# Altium integrated library Maxim Logic Multiplexer.IntLib: 168 symbols (part 1 of 4)
Pins are listed as number, name and electrical type; pins without a type are passive.

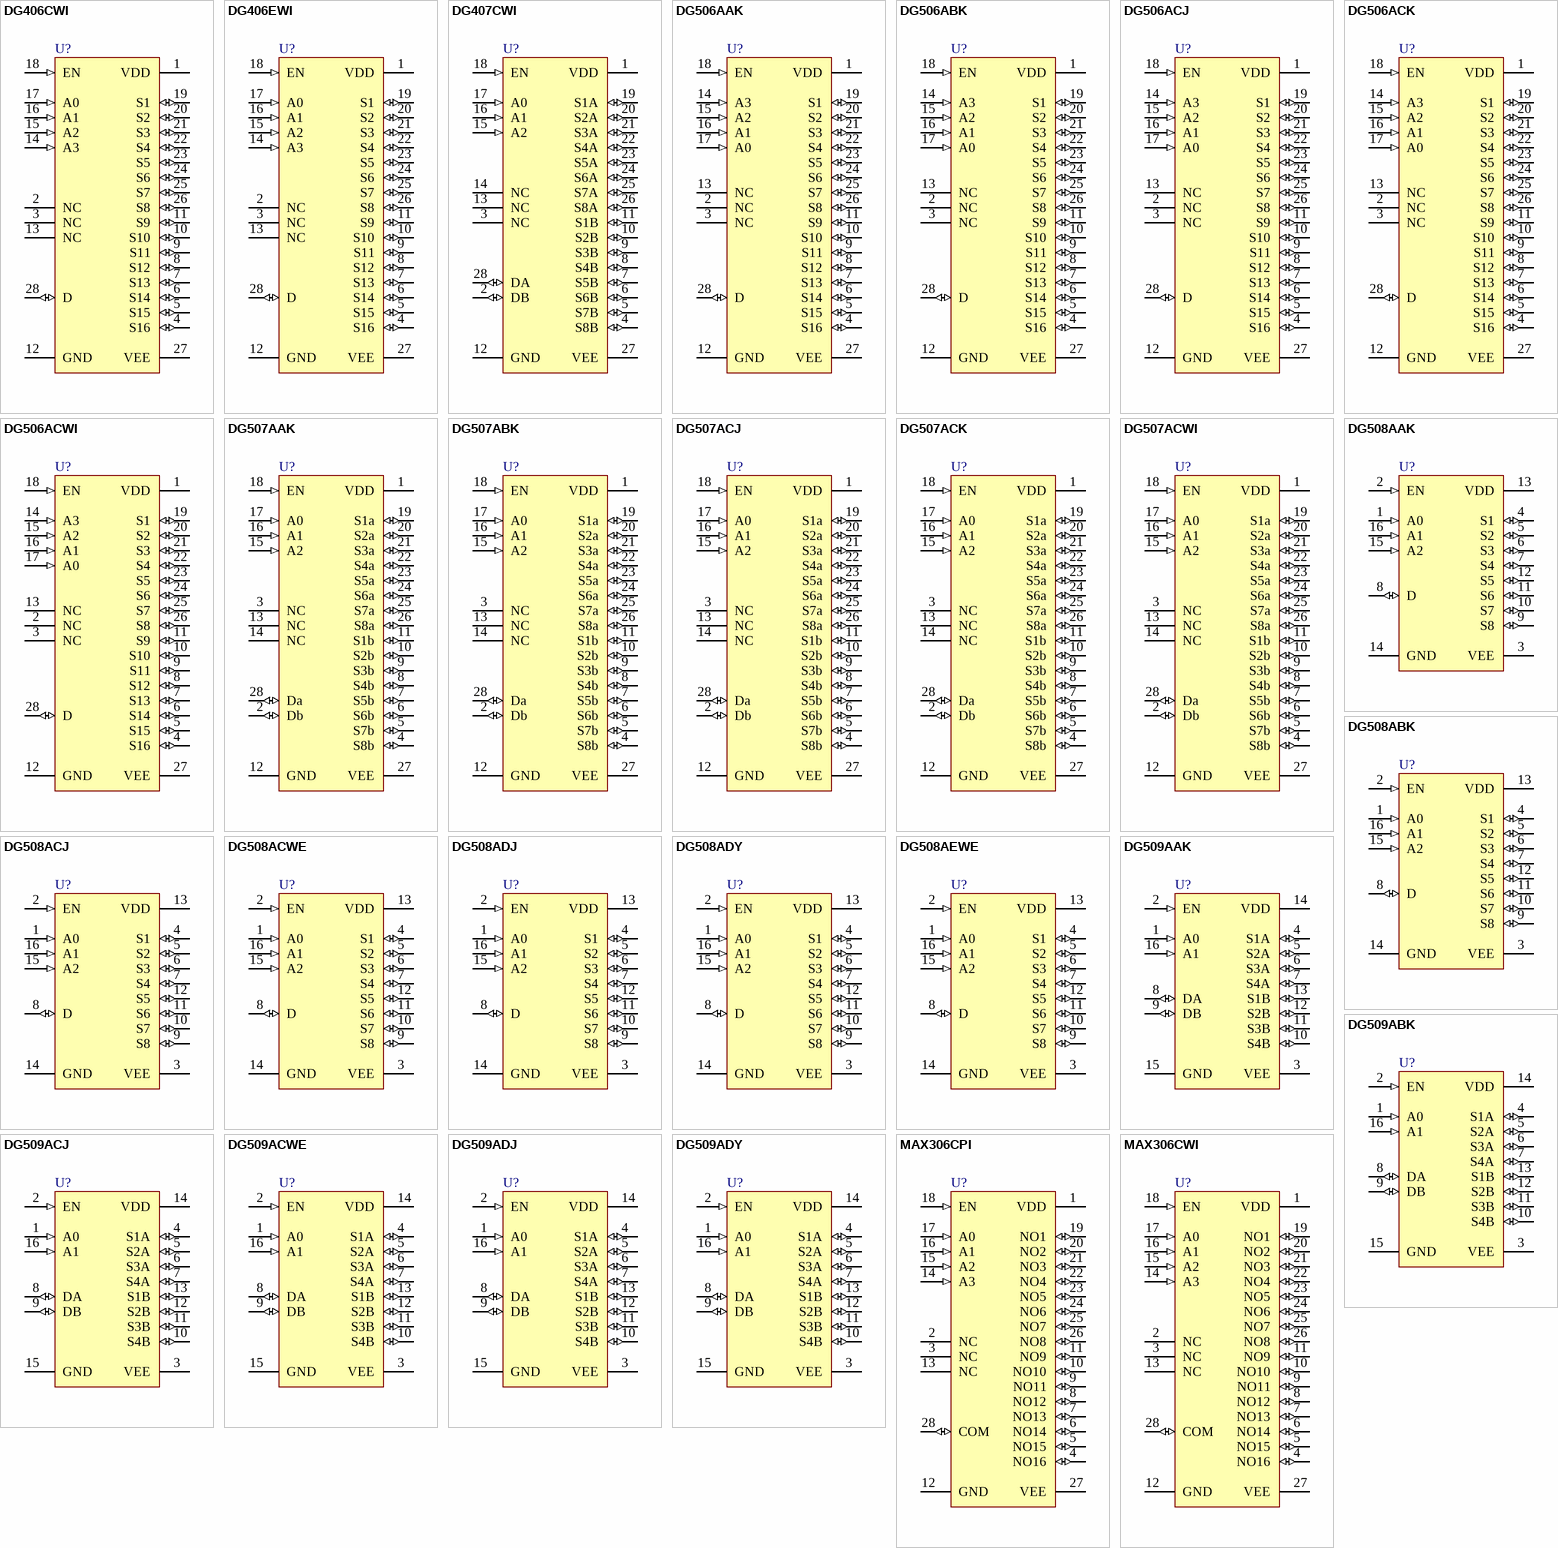
[diagram p0: symbols DG406CWI to MAX306CWI]

## DG406CWI
designator U?
Improved, 16-channel CMOS Analog Multiplexer; Published: 16-Jan-2001; LatestRevisionDate: 13-Apr-2006; LatestRevisionNote: IPC-7351 Footprint Added.; DatasheetVersion: Aug-1995; PackageReference: WSO28; Publisher: Altium Limited; PackageDescription: 28-Pin Small Outline Integrated Circuit 1.27 mm Pitch; ComponentLink1Description: Manufacturer Link; ComponentLink1URL: http://www.maxim-ic.com/; ComponentLink2Description: Datasheet; ComponentLink2URL: http://pdfserv.maxim-ic.com/en/ds/DG406-DG407.pdf
footprint WSO28_N (SOIC, 28-Leads, Body 17.9x7.5mm, Pitch 1.27mm, IPC Medium Density)
footprint WSO28_L (SOIC, 28-Leads, Body 17.9x7.5mm, Pitch 1.27mm, IPC High Density)
footprint WSO28_M (SOIC, 28-Leads, Body 17.9x7.5mm, Pitch 1.27mm, IPC Low Density)
3D model WSO28 (28-Pin Small Outline Integrated Circuit 1.27 mm Pitch)
pins: 1 VDD (power), 2 NC, 3 NC, 4 S16 (io), 5 S15 (io), 6 S14 (io), 7 S13 (io), 8 S12 (io), 9 S11 (io), 10 S10 (io), 11 S9 (io), 12 GND (power), 13 NC, 14 A3 (in), 15 A2 (in), 16 A1 (in), 17 A0 (in), 18 EN (in), 19 S1 (io), 20 S2 (io), 21 S3 (io), 22 S4 (io), 23 S5 (io), 24 S6 (io), 25 S7 (io), 26 S8 (io), 27 VEE (power), 28 D (io)

## DG406EWI
designator U?
16-Channel with High-Performance CMOS Analog Multiplexer; Published: 16-Jan-2001; LatestRevisionDate: 13-Apr-2006; LatestRevisionNote: IPC-7351 Footprint Added.; DatasheetVersion: May-1993; PackageReference: WSO28; Publisher: Altium Limited; PackageDescription: 28-Pin Small Outline Integrated Circuit 1.27 mm Pitch; ComponentLink1Description: Manufacturer Link; ComponentLink1URL: http://www.maxim-ic.com/; ComponentLink2Description: Datasheet; ComponentLink2URL: http://pdfserv.maxim-ic.com/en/ds/DG406-DG407.pdf
footprint WSO28_N (SOIC, 28-Leads, Body 17.9x7.5mm, Pitch 1.27mm, IPC Medium Density)
footprint WSO28_L (SOIC, 28-Leads, Body 17.9x7.5mm, Pitch 1.27mm, IPC High Density)
footprint WSO28_M (SOIC, 28-Leads, Body 17.9x7.5mm, Pitch 1.27mm, IPC Low Density)
3D model WSO28 (28-Pin Small Outline Integrated Circuit 1.27 mm Pitch)
pins: 1 VDD (power), 2 NC, 3 NC, 4 S16 (io), 5 S15 (io), 6 S14 (io), 7 S13 (io), 8 S12 (io), 9 S11 (io), 10 S10 (io), 11 S9 (io), 12 GND (power), 13 NC, 14 A3 (in), 15 A2 (in), 16 A1 (in), 17 A0 (in), 18 EN (in), 19 S1 (io), 20 S2 (io), 21 S3 (io), 22 S4 (io), 23 S5 (io), 24 S6 (io), 25 S7 (io), 26 S8 (io), 27 VEE (power), 28 D (io)

## DG407CWI
designator U?
Improved, Dual 8-channel CMOS Analog Multiplexer; Published: 16-Jan-2001; LatestRevisionDate: 13-Apr-2006; LatestRevisionNote: IPC-7351 Footprint Added.; DatasheetVersion: Aug-1995; PackageReference: WSO28; Publisher: Altium Limited; PackageDescription: 28-Pin Small Outline Integrated Circuit 1.27 mm Pitch; ComponentLink1Description: Manufacturer Link; ComponentLink1URL: http://www.maxim-ic.com/; ComponentLink2Description: Datasheet; ComponentLink2URL: http://pdfserv.maxim-ic.com/en/ds/DG406-DG407.pdf
footprint WSO28_N (SOIC, 28-Leads, Body 17.9x7.5mm, Pitch 1.27mm, IPC Medium Density)
footprint WSO28_L (SOIC, 28-Leads, Body 17.9x7.5mm, Pitch 1.27mm, IPC High Density)
footprint WSO28_M (SOIC, 28-Leads, Body 17.9x7.5mm, Pitch 1.27mm, IPC Low Density)
3D model WSO28 (28-Pin Small Outline Integrated Circuit 1.27 mm Pitch)
pins: 1 VDD (power), 2 DB (io), 3 NC, 4 S8B (io), 5 S7B (io), 6 S6B (io), 7 S5B (io), 8 S4B (io), 9 S3B (io), 10 S2B (io), 11 S1B (io), 12 GND (power), 13 NC, 14 NC, 15 A2 (in), 16 A1 (in), 17 A0 (in), 18 EN (in), 19 S1A (io), 20 S2A (io), 21 S3A (io), 22 S4A (io), 23 S5A (io), 24 S6A (io), 25 S7A (io), 26 S8A (io), 27 VEE (power), 28 DA (io)

## DG506AAK
designator U?
Monolithic CMOS Analog Multiplexer; Published: 16-Jan-2001; LatestRevisionDate: 29-May-2009; LatestRevisionNote: Component Body Added.; DatasheetVersion: Oct-1988; PackageReference: JI28A; Publisher: Altium Limited; PackageDescription: DIP, 28-Pin, Row Spacing 15.24 mm, Pitch 2.54 mm; ComponentLink1Description: Manufacturer Link; ComponentLink1URL: http://www.maxim-ic.com/
footprint JI28A (DIP, 28-Leads, Row Spacing 15.24mm, Pitch 2.54mm, Body 37.15x14.1mm)
3D model JI28 (DIP, 28-Pin, Row Spacing 15.24 mm, Pitch 2.54 mm)
pins: 1 VDD (power), 2 NC, 3 NC, 4 S16 (io), 5 S15 (io), 6 S14 (io), 7 S13 (io), 8 S12 (io), 9 S11 (io), 10 S10 (io), 11 S9 (io), 12 GND (power), 13 NC, 14 A3 (in), 15 A2 (in), 16 A1 (in), 17 A0 (in), 18 EN (in), 19 S1 (io), 20 S2 (io), 21 S3 (io), 22 S4 (io), 23 S5 (io), 24 S6 (io), 25 S7 (io), 26 S8 (io), 27 VEE (power), 28 D (io)

## DG506ABK
designator U?
Monolithic CMOS Analog Multiplexer; Published: 16-Jan-2001; LatestRevisionDate: 29-May-2009; LatestRevisionNote: Component Body Added.; DatasheetVersion: Oct-1988; PackageReference: JI28A; Publisher: Altium Limited; PackageDescription: DIP, 28-Pin, Row Spacing 15.24 mm, Pitch 2.54 mm; ComponentLink1Description: Manufacturer Link; ComponentLink1URL: http://www.maxim-ic.com/
footprint JI28A (DIP, 28-Leads, Row Spacing 15.24mm, Pitch 2.54mm, Body 37.15x14.1mm)
3D model JI28 (DIP, 28-Pin, Row Spacing 15.24 mm, Pitch 2.54 mm)
pins: 1 VDD (power), 2 NC, 3 NC, 4 S16 (io), 5 S15 (io), 6 S14 (io), 7 S13 (io), 8 S12 (io), 9 S11 (io), 10 S10 (io), 11 S9 (io), 12 GND (power), 13 NC, 14 A3 (in), 15 A2 (in), 16 A1 (in), 17 A0 (in), 18 EN (in), 19 S1 (io), 20 S2 (io), 21 S3 (io), 22 S4 (io), 23 S5 (io), 24 S6 (io), 25 S7 (io), 26 S8 (io), 27 VEE (power), 28 D (io)

## DG506ACJ
designator U?
Monolithic CMOS Analog Multiplexer; Published: 16-Jan-2001; LatestRevisionDate: 29-May-2009; LatestRevisionNote: Component Body Added.; DatasheetVersion: Oct-1988; PackageVersion: 1997; PackageReference: NI28A; Publisher: Altium Limited; PackageDescription: DIP, 28-Pin, Row Spacing 7.62 mm, Pitch 2.54 mm; ComponentLink1Description: Manufacturer Link; ComponentLink1URL: http://www.maxim-ic.com/
footprint NI28A (DIP, 28-Leads, Row Spacing 7.62mm, Pitch 2.54mm, Body 34.8x6.99mm)
3D model NI28 (DIP, 28-Pin, Row Spacing 7.62 mm, Pitch 2.54 mm)
pins: 1 VDD (power), 2 NC, 3 NC, 4 S16 (io), 5 S15 (io), 6 S14 (io), 7 S13 (io), 8 S12 (io), 9 S11 (io), 10 S10 (io), 11 S9 (io), 12 GND (power), 13 NC, 14 A3 (in), 15 A2 (in), 16 A1 (in), 17 A0 (in), 18 EN (in), 19 S1 (io), 20 S2 (io), 21 S3 (io), 22 S4 (io), 23 S5 (io), 24 S6 (io), 25 S7 (io), 26 S8 (io), 27 VEE (power), 28 D (io)

## DG506ACK
designator U?
Monolithic CMOS Analog Multiplexer; Published: 16-Jan-2001; LatestRevisionDate: 29-May-2009; LatestRevisionNote: Component Body Added.; DatasheetVersion: Oct-1988; PackageReference: JI28A; Publisher: Altium Limited; PackageDescription: DIP, 28-Pin, Row Spacing 15.24 mm, Pitch 2.54 mm; ComponentLink1Description: Manufacturer Link; ComponentLink1URL: http://www.maxim-ic.com/
footprint JI28A (DIP, 28-Leads, Row Spacing 15.24mm, Pitch 2.54mm, Body 37.15x14.1mm)
3D model JI28 (DIP, 28-Pin, Row Spacing 15.24 mm, Pitch 2.54 mm)
pins: 1 VDD (power), 2 NC, 3 NC, 4 S16 (io), 5 S15 (io), 6 S14 (io), 7 S13 (io), 8 S12 (io), 9 S11 (io), 10 S10 (io), 11 S9 (io), 12 GND (power), 13 NC, 14 A3 (in), 15 A2 (in), 16 A1 (in), 17 A0 (in), 18 EN (in), 19 S1 (io), 20 S2 (io), 21 S3 (io), 22 S4 (io), 23 S5 (io), 24 S6 (io), 25 S7 (io), 26 S8 (io), 27 VEE (power), 28 D (io)

## DG506ACWI
designator U?
Monolithic CMOS Analog Multiplexer; Published: 16-Jan-2001; LatestRevisionDate: 13-Apr-2006; LatestRevisionNote: IPC-7351 Footprint Added.; DatasheetVersion: Oct-1988; PackageReference: WSO28; Publisher: Altium Limited; PackageDescription: 28-Pin Small Outline Integrated Circuit 1.27 mm Pitch; ComponentLink1Description: Manufacturer Link; ComponentLink1URL: http://www.maxim-ic.com/
footprint WSO28_N (SOIC, 28-Leads, Body 17.9x7.5mm, Pitch 1.27mm, IPC Medium Density)
footprint WSO28_L (SOIC, 28-Leads, Body 17.9x7.5mm, Pitch 1.27mm, IPC High Density)
footprint WSO28_M (SOIC, 28-Leads, Body 17.9x7.5mm, Pitch 1.27mm, IPC Low Density)
3D model WSO28 (28-Pin Small Outline Integrated Circuit 1.27 mm Pitch)
pins: 1 VDD (power), 2 NC, 3 NC, 4 S16 (io), 5 S15 (io), 6 S14 (io), 7 S13 (io), 8 S12 (io), 9 S11 (io), 10 S10 (io), 11 S9 (io), 12 GND (power), 13 NC, 14 A3 (in), 15 A2 (in), 16 A1 (in), 17 A0 (in), 18 EN (in), 19 S1 (io), 20 S2 (io), 21 S3 (io), 22 S4 (io), 23 S5 (io), 24 S6 (io), 25 S7 (io), 26 S8 (io), 27 VEE (power), 28 D (io)

## DG507AAK
designator U?
Monolithic CMOS Analog Multiplexer; Published: 16-Jan-2001; LatestRevisionDate: 29-May-2009; LatestRevisionNote: Component Body Added.; DatasheetVersion: Oct-1988; PackageReference: JI28A; Publisher: Altium Limited; PackageDescription: DIP, 28-Pin, Row Spacing 15.24 mm, Pitch 2.54 mm; ComponentLink1Description: Manufacturer Link; ComponentLink1URL: http://www.maxim-ic.com/
footprint JI28A (DIP, 28-Leads, Row Spacing 15.24mm, Pitch 2.54mm, Body 37.15x14.1mm)
3D model JI28 (DIP, 28-Pin, Row Spacing 15.24 mm, Pitch 2.54 mm)
pins: 1 VDD (power), 2 Db (io), 3 NC, 4 S8b (io), 5 S7b (io), 6 S6b (io), 7 S5b (io), 8 S4b (io), 9 S3b (io), 10 S2b (io), 11 S1b (io), 12 GND (power), 13 NC, 14 NC, 15 A2 (in), 16 A1 (in), 17 A0 (in), 18 EN (in), 19 S1a (io), 20 S2a (io), 21 S3a (io), 22 S4a (io), 23 S5a (io), 24 S6a (io), 25 S7a (io), 26 S8a (io), 27 VEE (power), 28 Da (io)

## DG507ABK
designator U?
Monolithic CMOS Analog Multiplexer; Published: 16-Jan-2001; LatestRevisionDate: 29-May-2009; LatestRevisionNote: Component Body Added.; DatasheetVersion: Oct-1988; PackageReference: JI28A; Publisher: Altium Limited; PackageDescription: DIP, 28-Pin, Row Spacing 15.24 mm, Pitch 2.54 mm; ComponentLink1Description: Manufacturer Link; ComponentLink1URL: http://www.maxim-ic.com/
footprint JI28A (DIP, 28-Leads, Row Spacing 15.24mm, Pitch 2.54mm, Body 37.15x14.1mm)
3D model JI28 (DIP, 28-Pin, Row Spacing 15.24 mm, Pitch 2.54 mm)
pins: 1 VDD (power), 2 Db (io), 3 NC, 4 S8b (io), 5 S7b (io), 6 S6b (io), 7 S5b (io), 8 S4b (io), 9 S3b (io), 10 S2b (io), 11 S1b (io), 12 GND (power), 13 NC, 14 NC, 15 A2 (in), 16 A1 (in), 17 A0 (in), 18 EN (in), 19 S1a (io), 20 S2a (io), 21 S3a (io), 22 S4a (io), 23 S5a (io), 24 S6a (io), 25 S7a (io), 26 S8a (io), 27 VEE (power), 28 Da (io)

## DG507ACJ
designator U?
Monolithic CMOS Analog Multiplexer; Published: 16-Jan-2001; LatestRevisionDate: 29-May-2009; LatestRevisionNote: Component Body Added.; DatasheetVersion: Oct-1988; PackageVersion: 1997; PackageReference: NI28A; Publisher: Altium Limited; PackageDescription: DIP, 28-Pin, Row Spacing 7.62 mm, Pitch 2.54 mm; ComponentLink1Description: Manufacturer Link; ComponentLink1URL: http://www.maxim-ic.com/
footprint NI28A (DIP, 28-Leads, Row Spacing 7.62mm, Pitch 2.54mm, Body 34.8x6.99mm)
3D model NI28 (DIP, 28-Pin, Row Spacing 7.62 mm, Pitch 2.54 mm)
pins: 1 VDD (power), 2 Db (io), 3 NC, 4 S8b (io), 5 S7b (io), 6 S6b (io), 7 S5b (io), 8 S4b (io), 9 S3b (io), 10 S2b (io), 11 S1b (io), 12 GND (power), 13 NC, 14 NC, 15 A2 (in), 16 A1 (in), 17 A0 (in), 18 EN (in), 19 S1a (io), 20 S2a (io), 21 S3a (io), 22 S4a (io), 23 S5a (io), 24 S6a (io), 25 S7a (io), 26 S8a (io), 27 VEE (power), 28 Da (io)

## DG507ACK
designator U?
Monolithic CMOS Analog Multiplexer; Published: 16-Jan-2001; LatestRevisionDate: 29-May-2009; LatestRevisionNote: Component Body Added.; DatasheetVersion: Oct-1988; PackageReference: JI28A; Publisher: Altium Limited; PackageDescription: DIP, 28-Pin, Row Spacing 15.24 mm, Pitch 2.54 mm; ComponentLink1Description: Manufacturer Link; ComponentLink1URL: http://www.maxim-ic.com/
footprint JI28A (DIP, 28-Leads, Row Spacing 15.24mm, Pitch 2.54mm, Body 37.15x14.1mm)
3D model JI28 (DIP, 28-Pin, Row Spacing 15.24 mm, Pitch 2.54 mm)
pins: 1 VDD (power), 2 Db (io), 3 NC, 4 S8b (io), 5 S7b (io), 6 S6b (io), 7 S5b (io), 8 S4b (io), 9 S3b (io), 10 S2b (io), 11 S1b (io), 12 GND (power), 13 NC, 14 NC, 15 A2 (in), 16 A1 (in), 17 A0 (in), 18 EN (in), 19 S1a (io), 20 S2a (io), 21 S3a (io), 22 S4a (io), 23 S5a (io), 24 S6a (io), 25 S7a (io), 26 S8a (io), 27 VEE (power), 28 Da (io)

## DG507ACWI
designator U?
Monolithic CMOS Analog Multiplexer; Published: 16-Jan-2001; LatestRevisionDate: 13-Apr-2006; LatestRevisionNote: IPC-7351 Footprint Added.; DatasheetVersion: Oct-1988; PackageReference: WSO28; Publisher: Altium Limited; PackageDescription: 28-Pin Small Outline Integrated Circuit 1.27 mm Pitch; ComponentLink1Description: Manufacturer Link; ComponentLink1URL: http://www.maxim-ic.com/
footprint WSO28_N (SOIC, 28-Leads, Body 17.9x7.5mm, Pitch 1.27mm, IPC Medium Density)
footprint WSO28_L (SOIC, 28-Leads, Body 17.9x7.5mm, Pitch 1.27mm, IPC High Density)
footprint WSO28_M (SOIC, 28-Leads, Body 17.9x7.5mm, Pitch 1.27mm, IPC Low Density)
3D model WSO28 (28-Pin Small Outline Integrated Circuit 1.27 mm Pitch)
pins: 1 VDD (power), 2 Db (io), 3 NC, 4 S8b (io), 5 S7b (io), 6 S6b (io), 7 S5b (io), 8 S4b (io), 9 S3b (io), 10 S2b (io), 11 S1b (io), 12 GND (power), 13 NC, 14 NC, 15 A2 (in), 16 A1 (in), 17 A0 (in), 18 EN (in), 19 S1a (io), 20 S2a (io), 21 S3a (io), 22 S4a (io), 23 S5a (io), 24 S6a (io), 25 S7a (io), 26 S8a (io), 27 VEE (power), 28 Da (io)

## DG508AAK
designator U?
Monolithic CMOS Analog Multiplexer; Published: 16-Jan-2001; LatestRevisionDate: 29-May-2009; LatestRevisionNote: Component Body Added.; DatasheetVersion: Feb-1996; PackageVersion: 1996; PackageReference: JE16; Publisher: Altium Limited; PackageDescription: DIP, 16-Pin, Row Spacing 7.62 mm, Pitch 2.54 mm; ComponentLink1Description: Manufacturer Link; ComponentLink1URL: http://www.maxim-ic.com/; ComponentLink2Description: Datasheet; ComponentLink2URL: http://pdfserv.maxim-ic.com/en/ds/DG508A-DG509A.pdf
footprint JE16 (DIP, 16-Leads, Row Spacing 7.62mm, Pitch 2.54mm, Body 20.37x6.73mm)
3D model JE16 (DIP, 16-Pin, Row Spacing 7.62 mm, Pitch 2.54 mm)
pins: 1 A0 (in), 2 EN (in), 3 VEE (power), 4 S1 (io), 5 S2 (io), 6 S3 (io), 7 S4 (io), 8 D (io), 9 S8 (io), 10 S7 (io), 11 S6 (io), 12 S5 (io), 13 VDD (power), 14 GND (power), 15 A2 (in), 16 A1 (in)

## DG508ABK
designator U?
Monolithic CMOS Analog Multiplexer; Published: 16-Jan-2001; LatestRevisionDate: 29-May-2009; LatestRevisionNote: Component Body Added.; DatasheetVersion: Feb-1996; PackageVersion: 1996; PackageReference: JE16; Publisher: Altium Limited; PackageDescription: DIP, 16-Pin, Row Spacing 7.62 mm, Pitch 2.54 mm; ComponentLink1Description: Manufacturer Link; ComponentLink1URL: http://www.maxim-ic.com/; ComponentLink2Description: Datasheet; ComponentLink2URL: http://pdfserv.maxim-ic.com/en/ds/DG508A-DG509A.pdf
footprint JE16 (DIP, 16-Leads, Row Spacing 7.62mm, Pitch 2.54mm, Body 20.37x6.73mm)
3D model JE16 (DIP, 16-Pin, Row Spacing 7.62 mm, Pitch 2.54 mm)
pins: 1 A0 (in), 2 EN (in), 3 VEE (power), 4 S1 (io), 5 S2 (io), 6 S3 (io), 7 S4 (io), 8 D (io), 9 S8 (io), 10 S7 (io), 11 S6 (io), 12 S5 (io), 13 VDD (power), 14 GND (power), 15 A2 (in), 16 A1 (in)

## DG508ACJ
designator U?
Monolithic CMOS Analog Multiplexer; Published: 16-Jan-2001; LatestRevisionDate: 29-May-2009; LatestRevisionNote: Component Body Added.; DatasheetVersion: Feb-1996; PackageVersion: 1997; PackageReference: PE16A; Publisher: Altium Limited; PackageDescription: DIP, 16-Pin, Row Spacing 7.62 mm, Pitch 2.54 mm; Code_JEDEC: MS-001-BB; ComponentLink1Description: Manufacturer Link; ComponentLink1URL: http://www.maxim-ic.com/; ComponentLink2Description: Datasheet; ComponentLink2URL: http://pdfserv.maxim-ic.com/en/ds/DG508A-DG509A.pdf
footprint PE16A (DIP, 16-Leads, Row Spacing 7.62mm, Pitch 2.54mm, Body 19.18x6.99mm)
3D model PE16 (DIP, 16-Pin, Row Spacing 7.62 mm, Pitch 2.54 mm)
pins: 1 A0 (in), 2 EN (in), 3 VEE (power), 4 S1 (io), 5 S2 (io), 6 S3 (io), 7 S4 (io), 8 D (io), 9 S8 (io), 10 S7 (io), 11 S6 (io), 12 S5 (io), 13 VDD (power), 14 GND (power), 15 A2 (in), 16 A1 (in)

## DG508ACWE
designator U?
Monolithic CMOS Analog Multiplexer; Published: 16-Jan-2001; LatestRevisionDate: 13-Apr-2006; LatestRevisionNote: IPC-7351 Footprint Added.; DatasheetVersion: Feb-1996; PackageReference: WSO16; Publisher: Altium Limited; PackageDescription: 16-Pin Small Outline Integrated Circuit 1.27 mm Pitch; Code_JEDEC: MS-013-AA; Code_IPC: SOIC127P1030-16; ComponentLink1Description: Manufacturer Link; ComponentLink1URL: http://www.maxim-ic.com/; ComponentLink2Description: Datasheet; ComponentLink2URL: http://pdfserv.maxim-ic.com/en/ds/DG508A-DG509A.pdf
footprint WSO16_N (SOIC, 16-Leads, Body 10.3x7.5mm, Pitch 1.27mm, IPC Medium Density)
footprint WSO16_L (SOIC, 16-Leads, Body 10.3x7.5mm, Pitch 1.27mm, IPC High Density)
footprint WSO16_M (SOIC, 16-Leads, Body 10.3x7.5mm, Pitch 1.27mm, IPC Low Density)
3D model WSO16 (16-Pin Small Outline Integrated Circuit 1.27 mm Pitch)
pins: 1 A0 (in), 2 EN (in), 3 VEE (power), 4 S1 (io), 5 S2 (io), 6 S3 (io), 7 S4 (io), 8 D (io), 9 S8 (io), 10 S7 (io), 11 S6 (io), 12 S5 (io), 13 VDD (power), 14 GND (power), 15 A2 (in), 16 A1 (in)

## DG508ADJ
designator U?
Monolithic CMOS Analog Multiplexer; Published: 16-Jan-2001; LatestRevisionDate: 29-May-2009; LatestRevisionNote: Component Body Added.; DatasheetVersion: Feb-1996; PackageVersion: 1997; PackageReference: PE16A; Publisher: Altium Limited; PackageDescription: DIP, 16-Pin, Row Spacing 7.62 mm, Pitch 2.54 mm; Code_JEDEC: MS-001-BB; ComponentLink1Description: Manufacturer Link; ComponentLink1URL: http://www.maxim-ic.com/; ComponentLink2Description: Datasheet; ComponentLink2URL: http://pdfserv.maxim-ic.com/en/ds/DG508A-DG509A.pdf
footprint PE16A (DIP, 16-Leads, Row Spacing 7.62mm, Pitch 2.54mm, Body 19.18x6.99mm)
3D model PE16 (DIP, 16-Pin, Row Spacing 7.62 mm, Pitch 2.54 mm)
pins: 1 A0 (in), 2 EN (in), 3 VEE (power), 4 S1 (io), 5 S2 (io), 6 S3 (io), 7 S4 (io), 8 D (io), 9 S8 (io), 10 S7 (io), 11 S6 (io), 12 S5 (io), 13 VDD (power), 14 GND (power), 15 A2 (in), 16 A1 (in)

## DG508ADY
designator U?
Monolithic CMOS Analog Multiplexer; Published: 16-Jan-2001; LatestRevisionDate: 13-Apr-2006; LatestRevisionNote: IPC-7351 Footprint Added.; DatasheetVersion: Feb-1996; PackageReference: NSO16; Publisher: Altium Limited; PackageDescription: 16-Pin Small Outline Integrated Circuit 1.27 mm Pitch; Code_JEDEC: MS-012-AC; Code_IPC: SOIC127P600-16; ComponentLink1Description: Manufacturer Link; ComponentLink1URL: http://www.maxim-ic.com/; ComponentLink2Description: Datasheet; ComponentLink2URL: http://pdfserv.maxim-ic.com/en/ds/DG508A-DG509A.pdf
footprint NSO16_N (SOIC, 16-Leads, Body 9.9x3.9mm, Pitch 1.27mm, IPC Medium Density)
footprint NSO16_L (SOIC, 16-Leads, Body 9.9x3.9mm, Pitch 1.27mm, IPC High Density)
footprint NSO16_M (SOIC, 16-Leads, Body 9.9x3.9mm, Pitch 1.27mm, IPC Low Density)
3D model NSO16 (16-Pin Small Outline Integrated Circuit 1.27 mm Pitch)
pins: 1 A0 (in), 2 EN (in), 3 VEE (power), 4 S1 (io), 5 S2 (io), 6 S3 (io), 7 S4 (io), 8 D (io), 9 S8 (io), 10 S7 (io), 11 S6 (io), 12 S5 (io), 13 VDD (power), 14 GND (power), 15 A2 (in), 16 A1 (in)

## DG508AEWE
designator U?
Monolithic CMOS Analog Multiplexer; Published: 16-Jan-2001; LatestRevisionDate: 13-Apr-2006; LatestRevisionNote: IPC-7351 Footprint Added.; DatasheetVersion: Feb-1996; PackageReference: WSO16; Publisher: Altium Limited; PackageDescription: 16-Pin Small Outline Integrated Circuit 1.27 mm Pitch; Code_JEDEC: MS-013-AA; Code_IPC: SOIC127P1030-16; ComponentLink1Description: Manufacturer Link; ComponentLink1URL: http://www.maxim-ic.com/; ComponentLink2Description: Datasheet; ComponentLink2URL: http://pdfserv.maxim-ic.com/en/ds/DG508A-DG509A.pdf
footprint WSO16_N (SOIC, 16-Leads, Body 10.3x7.5mm, Pitch 1.27mm, IPC Medium Density)
footprint WSO16_L (SOIC, 16-Leads, Body 10.3x7.5mm, Pitch 1.27mm, IPC High Density)
footprint WSO16_M (SOIC, 16-Leads, Body 10.3x7.5mm, Pitch 1.27mm, IPC Low Density)
3D model WSO16 (16-Pin Small Outline Integrated Circuit 1.27 mm Pitch)
pins: 1 A0 (in), 2 EN (in), 3 VEE (power), 4 S1 (io), 5 S2 (io), 6 S3 (io), 7 S4 (io), 8 D (io), 9 S8 (io), 10 S7 (io), 11 S6 (io), 12 S5 (io), 13 VDD (power), 14 GND (power), 15 A2 (in), 16 A1 (in)

## DG509AAK
designator U?
Monolithic CMOS Analog Multiplexer; Published: 16-Jan-2001; LatestRevisionDate: 29-May-2009; LatestRevisionNote: Component Body Added.; DatasheetVersion: Feb-1996; PackageVersion: 1996; PackageReference: JE16; Publisher: Altium Limited; PackageDescription: DIP, 16-Pin, Row Spacing 7.62 mm, Pitch 2.54 mm; ComponentLink1Description: Manufacturer Link; ComponentLink1URL: http://www.maxim-ic.com/; ComponentLink2Description: Datasheet; ComponentLink2URL: http://pdfserv.maxim-ic.com/en/ds/DG508A-DG509A.pdf
footprint JE16 (DIP, 16-Leads, Row Spacing 7.62mm, Pitch 2.54mm, Body 20.37x6.73mm)
3D model JE16 (DIP, 16-Pin, Row Spacing 7.62 mm, Pitch 2.54 mm)
pins: 1 A0 (in), 2 EN (in), 3 VEE (power), 4 S1A (io), 5 S2A (io), 6 S3A (io), 7 S4A (io), 8 DA (io), 9 DB (io), 10 S4B (io), 11 S3B (io), 12 S2B (io), 13 S1B (io), 14 VDD (power), 15 GND (power), 16 A1 (in)

## DG509ABK
designator U?
Monolithic CMOS Analog Multiplexer; Published: 16-Jan-2001; LatestRevisionDate: 29-May-2009; LatestRevisionNote: Component Body Added.; DatasheetVersion: Feb-1996; PackageVersion: 1996; PackageReference: JE16; Publisher: Altium Limited; PackageDescription: DIP, 16-Pin, Row Spacing 7.62 mm, Pitch 2.54 mm; ComponentLink1Description: Manufacturer Link; ComponentLink1URL: http://www.maxim-ic.com/; ComponentLink2Description: Datasheet; ComponentLink2URL: http://pdfserv.maxim-ic.com/en/ds/DG508A-DG509A.pdf
footprint JE16 (DIP, 16-Leads, Row Spacing 7.62mm, Pitch 2.54mm, Body 20.37x6.73mm)
3D model JE16 (DIP, 16-Pin, Row Spacing 7.62 mm, Pitch 2.54 mm)
pins: 1 A0 (in), 2 EN (in), 3 VEE (power), 4 S1A (io), 5 S2A (io), 6 S3A (io), 7 S4A (io), 8 DA (io), 9 DB (io), 10 S4B (io), 11 S3B (io), 12 S2B (io), 13 S1B (io), 14 VDD (power), 15 GND (power), 16 A1 (in)

## DG509ACJ
designator U?
Monolithic CMOS Analog Multiplexer; Published: 16-Jan-2001; LatestRevisionDate: 29-May-2009; LatestRevisionNote: Component Body Added.; DatasheetVersion: Feb-1996; PackageVersion: 1997; PackageReference: PE16A; Publisher: Altium Limited; PackageDescription: DIP, 16-Pin, Row Spacing 7.62 mm, Pitch 2.54 mm; Code_JEDEC: MS-001-BB; ComponentLink1Description: Manufacturer Link; ComponentLink1URL: http://www.maxim-ic.com/; ComponentLink2Description: Datasheet; ComponentLink2URL: http://pdfserv.maxim-ic.com/en/ds/DG508A-DG509A.pdf
footprint PE16A (DIP, 16-Leads, Row Spacing 7.62mm, Pitch 2.54mm, Body 19.18x6.99mm)
3D model PE16 (DIP, 16-Pin, Row Spacing 7.62 mm, Pitch 2.54 mm)
pins: 1 A0 (in), 2 EN (in), 3 VEE (power), 4 S1A (io), 5 S2A (io), 6 S3A (io), 7 S4A (io), 8 DA (io), 9 DB (io), 10 S4B (io), 11 S3B (io), 12 S2B (io), 13 S1B (io), 14 VDD (power), 15 GND (power), 16 A1 (in)

## DG509ACWE
designator U?
Monolithic CMOS Analog Multiplexer; Published: 16-Jan-2001; LatestRevisionDate: 13-Apr-2006; LatestRevisionNote: IPC-7351 Footprint Added.; DatasheetVersion: Feb-1996; PackageReference: WSO16; Publisher: Altium Limited; PackageDescription: 16-Pin Small Outline Integrated Circuit 1.27 mm Pitch; Code_JEDEC: MS-013-AA; Code_IPC: SOIC127P1030-16; ComponentLink1Description: Manufacturer Link; ComponentLink1URL: http://www.maxim-ic.com/; ComponentLink2Description: Datasheet; ComponentLink2URL: http://pdfserv.maxim-ic.com/en/ds/DG508A-DG509A.pdf
footprint WSO16_N (SOIC, 16-Leads, Body 10.3x7.5mm, Pitch 1.27mm, IPC Medium Density)
footprint WSO16_L (SOIC, 16-Leads, Body 10.3x7.5mm, Pitch 1.27mm, IPC High Density)
footprint WSO16_M (SOIC, 16-Leads, Body 10.3x7.5mm, Pitch 1.27mm, IPC Low Density)
3D model WSO16 (16-Pin Small Outline Integrated Circuit 1.27 mm Pitch)
pins: 1 A0 (in), 2 EN (in), 3 VEE (power), 4 S1A (io), 5 S2A (io), 6 S3A (io), 7 S4A (io), 8 DA (io), 9 DB (io), 10 S4B (io), 11 S3B (io), 12 S2B (io), 13 S1B (io), 14 VDD (power), 15 GND (power), 16 A1 (in)

## DG509ADJ
designator U?
Monolithic CMOS Analog Multiplexer; Published: 16-Jan-2001; LatestRevisionDate: 29-May-2009; LatestRevisionNote: Component Body Added.; DatasheetVersion: Feb-1996; PackageVersion: 1997; PackageReference: PE16A; Publisher: Altium Limited; PackageDescription: DIP, 16-Pin, Row Spacing 7.62 mm, Pitch 2.54 mm; Code_JEDEC: MS-001-BB; ComponentLink1Description: Manufacturer Link; ComponentLink1URL: http://www.maxim-ic.com/; ComponentLink2Description: Datasheet; ComponentLink2URL: http://pdfserv.maxim-ic.com/en/ds/DG508A-DG509A.pdf
footprint PE16A (DIP, 16-Leads, Row Spacing 7.62mm, Pitch 2.54mm, Body 19.18x6.99mm)
3D model PE16 (DIP, 16-Pin, Row Spacing 7.62 mm, Pitch 2.54 mm)
pins: 1 A0 (in), 2 EN (in), 3 VEE (power), 4 S1A (io), 5 S2A (io), 6 S3A (io), 7 S4A (io), 8 DA (io), 9 DB (io), 10 S4B (io), 11 S3B (io), 12 S2B (io), 13 S1B (io), 14 VDD (power), 15 GND (power), 16 A1 (in)

## DG509ADY
designator U?
Monolithic CMOS Analog Multiplexer; Published: 16-Jan-2001; LatestRevisionDate: 13-Apr-2006; LatestRevisionNote: IPC-7351 Footprint Added.; DatasheetVersion: Feb-1996; PackageReference: NSO16; Publisher: Altium Limited; PackageDescription: 16-Pin Small Outline Integrated Circuit 1.27 mm Pitch; Code_JEDEC: MS-012-AC; Code_IPC: SOIC127P600-16; ComponentLink1Description: Manufacturer Link; ComponentLink1URL: http://www.maxim-ic.com/; ComponentLink2Description: Datasheet; ComponentLink2URL: http://pdfserv.maxim-ic.com/en/ds/DG508A-DG509A.pdf
footprint NSO16_N (SOIC, 16-Leads, Body 9.9x3.9mm, Pitch 1.27mm, IPC Medium Density)
footprint NSO16_L (SOIC, 16-Leads, Body 9.9x3.9mm, Pitch 1.27mm, IPC High Density)
footprint NSO16_M (SOIC, 16-Leads, Body 9.9x3.9mm, Pitch 1.27mm, IPC Low Density)
3D model NSO16 (16-Pin Small Outline Integrated Circuit 1.27 mm Pitch)
pins: 1 A0 (in), 2 EN (in), 3 VEE (power), 4 S1A (io), 5 S2A (io), 6 S3A (io), 7 S4A (io), 8 DA (io), 9 DB (io), 10 S4B (io), 11 S3B (io), 12 S2B (io), 13 S1B (io), 14 VDD (power), 15 GND (power), 16 A1 (in)

## MAX306CPI
designator U?
Precision, 16-Channel High-performance, CMOS Analog Multiplexer; Published: 16-Jan-2001; LatestRevisionDate: 29-May-2009; LatestRevisionNote: Component Body Added.; DatasheetVersion: Aug-1994; PackageVersion: 1997; PackageReference: NI28A; Publisher: Altium Limited; PackageDescription: DIP, 28-Pin, Row Spacing 7.62 mm, Pitch 2.54 mm; ComponentLink1Description: Manufacturer Link; ComponentLink1URL: http://www.maxim-ic.com/; ComponentLink2Description: Datasheet; ComponentLink2URL: http://pdfserv.maxim-ic.com/en/ds/MAX306-MAX307.pdf
footprint NI28A (DIP, 28-Leads, Row Spacing 7.62mm, Pitch 2.54mm, Body 34.8x6.99mm)
3D model NI28 (DIP, 28-Pin, Row Spacing 7.62 mm, Pitch 2.54 mm)
pins: 1 VDD (power), 2 NC, 3 NC, 4 NO16 (io), 5 NO15 (io), 6 NO14 (io), 7 NO13 (io), 8 NO12 (io), 9 NO11 (io), 10 NO10 (io), 11 NO9 (io), 12 GND (power), 13 NC, 14 A3 (in), 15 A2 (in), 16 A1 (in), 17 A0 (in), 18 EN (in), 19 NO1 (io), 20 NO2 (io), 21 NO3 (io), 22 NO4 (io), 23 NO5 (io), 24 NO6 (io), 25 NO7 (io), 26 NO8 (io), 27 VEE (power), 28 COM (io)

## MAX306CWI
designator U?
Precision, 16-Channel High-performance, CMOS Analog Multiplexer; Published: 16-Jan-2001; LatestRevisionDate: 13-Apr-2006; LatestRevisionNote: IPC-7351 Footprint Added.; DatasheetVersion: Aug-1994; PackageReference: WSO28; Publisher: Altium Limited; PackageDescription: 28-Pin Small Outline Integrated Circuit 1.27 mm Pitch; ComponentLink1Description: Manufacturer Link; ComponentLink1URL: http://www.maxim-ic.com/; ComponentLink2Description: Datasheet; ComponentLink2URL: http://pdfserv.maxim-ic.com/en/ds/MAX306-MAX307.pdf
footprint WSO28_N (SOIC, 28-Leads, Body 17.9x7.5mm, Pitch 1.27mm, IPC Medium Density)
footprint WSO28_L (SOIC, 28-Leads, Body 17.9x7.5mm, Pitch 1.27mm, IPC High Density)
footprint WSO28_M (SOIC, 28-Leads, Body 17.9x7.5mm, Pitch 1.27mm, IPC Low Density)
3D model WSO28 (28-Pin Small Outline Integrated Circuit 1.27 mm Pitch)
pins: 1 VDD (power), 2 NC, 3 NC, 4 NO16 (io), 5 NO15 (io), 6 NO14 (io), 7 NO13 (io), 8 NO12 (io), 9 NO11 (io), 10 NO10 (io), 11 NO9 (io), 12 GND (power), 13 NC, 14 A3 (in), 15 A2 (in), 16 A1 (in), 17 A0 (in), 18 EN (in), 19 NO1 (io), 20 NO2 (io), 21 NO3 (io), 22 NO4 (io), 23 NO5 (io), 24 NO6 (io), 25 NO7 (io), 26 NO8 (io), 27 VEE (power), 28 COM (io)

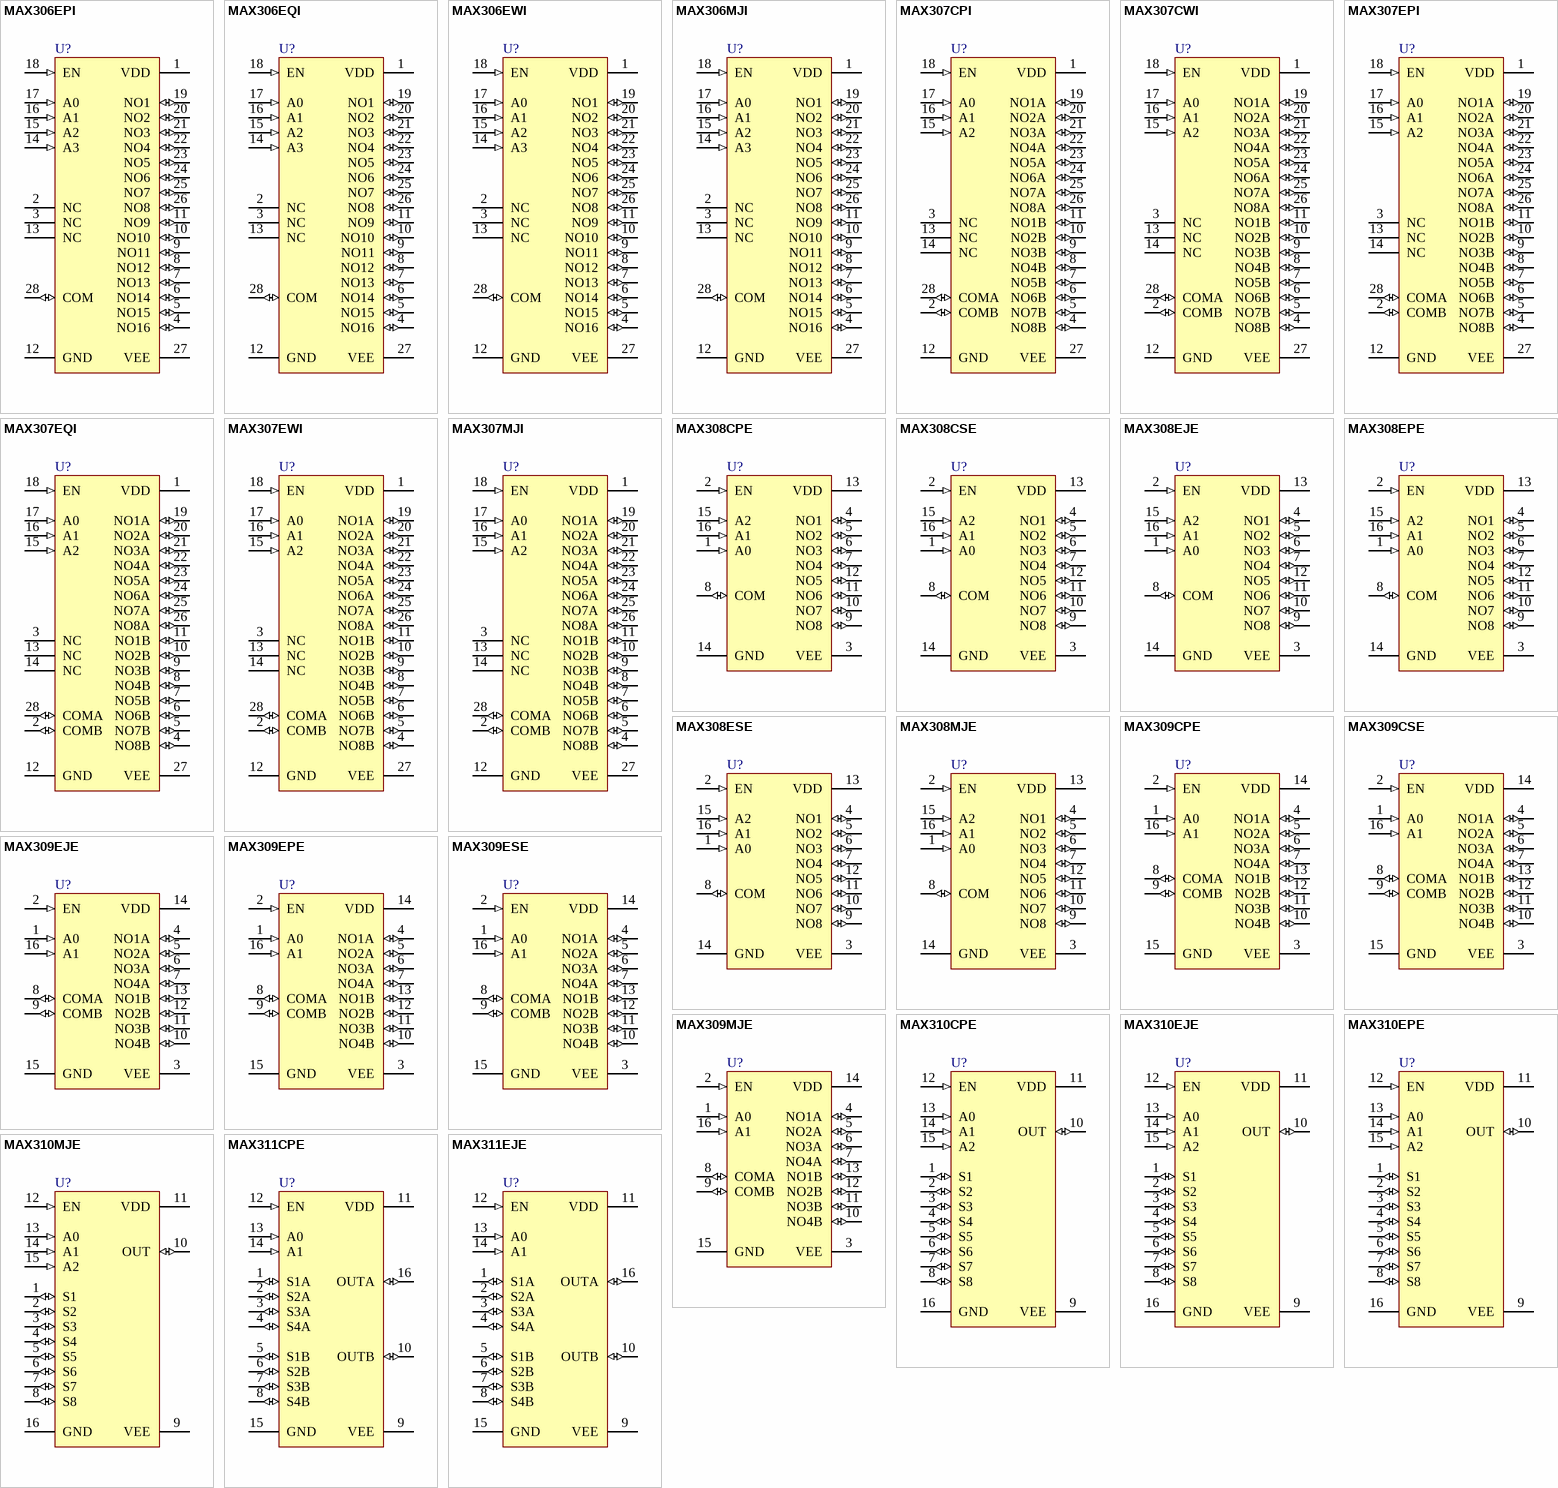
[diagram p1: symbols MAX306EPI to MAX311EJE]

## MAX306EPI
designator U?
Precision, 16-Channel High-performance, CMOS Analog Multiplexer; Published: 16-Jan-2001; LatestRevisionDate: 29-May-2009; LatestRevisionNote: Component Body Added.; DatasheetVersion: Aug-1994; PackageVersion: 1997; PackageReference: NI28A; Publisher: Altium Limited; PackageDescription: DIP, 28-Pin, Row Spacing 7.62 mm, Pitch 2.54 mm; ComponentLink1Description: Manufacturer Link; ComponentLink1URL: http://www.maxim-ic.com/; ComponentLink2Description: Datasheet; ComponentLink2URL: http://pdfserv.maxim-ic.com/en/ds/MAX306-MAX307.pdf
footprint NI28A (DIP, 28-Leads, Row Spacing 7.62mm, Pitch 2.54mm, Body 34.8x6.99mm)
3D model NI28 (DIP, 28-Pin, Row Spacing 7.62 mm, Pitch 2.54 mm)
pins: 1 VDD (power), 2 NC, 3 NC, 4 NO16 (io), 5 NO15 (io), 6 NO14 (io), 7 NO13 (io), 8 NO12 (io), 9 NO11 (io), 10 NO10 (io), 11 NO9 (io), 12 GND (power), 13 NC, 14 A3 (in), 15 A2 (in), 16 A1 (in), 17 A0 (in), 18 EN (in), 19 NO1 (io), 20 NO2 (io), 21 NO3 (io), 22 NO4 (io), 23 NO5 (io), 24 NO6 (io), 25 NO7 (io), 26 NO8 (io), 27 VEE (power), 28 COM (io)

## MAX306EQI
designator U?
Precision, 16-Channel High-performance, CMOS Analog Multiplexer; Published: 16-Jan-2001; LatestRevisionDate: 13-Apr-2006; LatestRevisionNote: IPC-7351 Footprint Added.; DatasheetVersion: Aug-1994; PackageReference: PLCC28; Publisher: Altium Limited; PackageDescription: 28-Pin Leaded Chip Carrier 1.27 mm Pitch; Code_IPC: PLCC-28; ComponentLink1Description: Manufacturer Link; ComponentLink1URL: http://www.maxim-ic.com/; ComponentLink2Description: Datasheet; ComponentLink2URL: http://pdfserv.maxim-ic.com/en/ds/MAX306-MAX307.pdf
footprint PLCC28_N (Leaded Chip Carrier, 28-Leads, Body 11.5x11.5mm, Pitch 1.27mm, IPC Medium Density)
footprint PLCC28_L (Leaded Chip Carrier, 28-Leads, Body 11.5x11.5mm, Pitch 1.27mm, IPC High Density)
footprint PLCC28_M (Leaded Chip Carrier, 28-Leads, Body 11.5x11.5mm, Pitch 1.27mm, IPC Low Density)
3D model MAX306-PLCC28 (28-Pin Leaded Chip Carrier 1.27 mm Pitch)
pins: 1 VDD (power), 2 NC, 3 NC, 4 NO16 (io), 5 NO15 (io), 6 NO14 (io), 7 NO13 (io), 8 NO12 (io), 9 NO11 (io), 10 NO10 (io), 11 NO9 (io), 12 GND (power), 13 NC, 14 A3 (in), 15 A2 (in), 16 A1 (in), 17 A0 (in), 18 EN (in), 19 NO1 (io), 20 NO2 (io), 21 NO3 (io), 22 NO4 (io), 23 NO5 (io), 24 NO6 (io), 25 NO7 (io), 26 NO8 (io), 27 VEE (power), 28 COM (io)

## MAX306EWI
designator U?
Precision, 16-Channel High-performance, CMOS Analog Multiplexer; Published: 16-Jan-2001; LatestRevisionDate: 13-Apr-2006; LatestRevisionNote: IPC-7351 Footprint Added.; DatasheetVersion: Aug-1994; PackageReference: WSO28; Publisher: Altium Limited; PackageDescription: 28-Pin Small Outline Integrated Circuit 1.27 mm Pitch; ComponentLink1Description: Manufacturer Link; ComponentLink1URL: http://www.maxim-ic.com/; ComponentLink2Description: Datasheet; ComponentLink2URL: http://pdfserv.maxim-ic.com/en/ds/MAX306-MAX307.pdf
footprint WSO28_N (SOIC, 28-Leads, Body 17.9x7.5mm, Pitch 1.27mm, IPC Medium Density)
footprint WSO28_L (SOIC, 28-Leads, Body 17.9x7.5mm, Pitch 1.27mm, IPC High Density)
footprint WSO28_M (SOIC, 28-Leads, Body 17.9x7.5mm, Pitch 1.27mm, IPC Low Density)
3D model WSO28 (28-Pin Small Outline Integrated Circuit 1.27 mm Pitch)
pins: 1 VDD (power), 2 NC, 3 NC, 4 NO16 (io), 5 NO15 (io), 6 NO14 (io), 7 NO13 (io), 8 NO12 (io), 9 NO11 (io), 10 NO10 (io), 11 NO9 (io), 12 GND (power), 13 NC, 14 A3 (in), 15 A2 (in), 16 A1 (in), 17 A0 (in), 18 EN (in), 19 NO1 (io), 20 NO2 (io), 21 NO3 (io), 22 NO4 (io), 23 NO5 (io), 24 NO6 (io), 25 NO7 (io), 26 NO8 (io), 27 VEE (power), 28 COM (io)

## MAX306MJI
designator U?
Precision, 16-Channel High-performance, CMOS Analog Multiplexer; Published: 16-Jan-2001; LatestRevisionDate: 29-May-2009; LatestRevisionNote: Component Body Added.; DatasheetVersion: Aug-1994; PackageReference: JI28A; Publisher: Altium Limited; PackageDescription: DIP, 28-Pin, Row Spacing 15.24 mm, Pitch 2.54 mm; ComponentLink1Description: Manufacturer Link; ComponentLink1URL: http://www.maxim-ic.com/; ComponentLink2Description: Datasheet; ComponentLink2URL: http://pdfserv.maxim-ic.com/en/ds/MAX306-MAX307.pdf
footprint JI28A (DIP, 28-Leads, Row Spacing 15.24mm, Pitch 2.54mm, Body 37.15x14.1mm)
3D model JI28 (DIP, 28-Pin, Row Spacing 15.24 mm, Pitch 2.54 mm)
pins: 1 VDD (power), 2 NC, 3 NC, 4 NO16 (io), 5 NO15 (io), 6 NO14 (io), 7 NO13 (io), 8 NO12 (io), 9 NO11 (io), 10 NO10 (io), 11 NO9 (io), 12 GND (power), 13 NC, 14 A3 (in), 15 A2 (in), 16 A1 (in), 17 A0 (in), 18 EN (in), 19 NO1 (io), 20 NO2 (io), 21 NO3 (io), 22 NO4 (io), 23 NO5 (io), 24 NO6 (io), 25 NO7 (io), 26 NO8 (io), 27 VEE (power), 28 COM (io)

## MAX307CPI
designator U?
Precision, Dual 8-Channel, High-Performance, CMOS Analog Multiplexer; Published: 16-Jan-2001; LatestRevisionDate: 29-May-2009; LatestRevisionNote: Component Body Added.; DatasheetVersion: Aug-1994; PackageVersion: 1997; PackageReference: NI28A; Publisher: Altium Limited; PackageDescription: DIP, 28-Pin, Row Spacing 7.62 mm, Pitch 2.54 mm; ComponentLink1Description: Manufacturer Link; ComponentLink1URL: http://www.maxim-ic.com/; ComponentLink2Description: Datasheet; ComponentLink2URL: http://pdfserv.maxim-ic.com/en/ds/MAX306-MAX307.pdf
footprint NI28A (DIP, 28-Leads, Row Spacing 7.62mm, Pitch 2.54mm, Body 34.8x6.99mm)
3D model NI28 (DIP, 28-Pin, Row Spacing 7.62 mm, Pitch 2.54 mm)
pins: 1 VDD (power), 2 COMB (io), 3 NC, 4 NO8B (io), 5 NO7B (io), 6 NO6B (io), 7 NO5B (io), 8 NO4B (io), 9 NO3B (io), 10 NO2B (io), 11 NO1B (io), 12 GND (power), 13 NC, 14 NC, 15 A2 (in), 16 A1 (in), 17 A0 (in), 18 EN (in), 19 NO1A (io), 20 NO2A (io), 21 NO3A (io), 22 NO4A (io), 23 NO5A (io), 24 NO6A (io), 25 NO7A (io), 26 NO8A (io), 27 VEE (power), 28 COMA (io)

## MAX307CWI
designator U?
Precision, Dual 8-Channel, High-Performance, CMOS Analog Multiplexer; Published: 16-Jan-2001; LatestRevisionDate: 13-Apr-2006; LatestRevisionNote: IPC-7351 Footprint Added.; DatasheetVersion: Aug-1994; PackageReference: WSO28; Publisher: Altium Limited; PackageDescription: 28-Pin Small Outline Integrated Circuit 1.27 mm Pitch; ComponentLink1Description: Manufacturer Link; ComponentLink1URL: http://www.maxim-ic.com/; ComponentLink2Description: Datasheet; ComponentLink2URL: http://pdfserv.maxim-ic.com/en/ds/MAX306-MAX307.pdf
footprint WSO28_N (SOIC, 28-Leads, Body 17.9x7.5mm, Pitch 1.27mm, IPC Medium Density)
footprint WSO28_L (SOIC, 28-Leads, Body 17.9x7.5mm, Pitch 1.27mm, IPC High Density)
footprint WSO28_M (SOIC, 28-Leads, Body 17.9x7.5mm, Pitch 1.27mm, IPC Low Density)
3D model WSO28 (28-Pin Small Outline Integrated Circuit 1.27 mm Pitch)
pins: 1 VDD (power), 2 COMB (io), 3 NC, 4 NO8B (io), 5 NO7B (io), 6 NO6B (io), 7 NO5B (io), 8 NO4B (io), 9 NO3B (io), 10 NO2B (io), 11 NO1B (io), 12 GND (power), 13 NC, 14 NC, 15 A2 (in), 16 A1 (in), 17 A0 (in), 18 EN (in), 19 NO1A (io), 20 NO2A (io), 21 NO3A (io), 22 NO4A (io), 23 NO5A (io), 24 NO6A (io), 25 NO7A (io), 26 NO8A (io), 27 VEE (power), 28 COMA (io)

## MAX307EPI
designator U?
Precision, Dual 8-Channel, High-Performance, CMOS Analog Multiplexer; Published: 16-Jan-2001; LatestRevisionDate: 29-May-2009; LatestRevisionNote: Component Body Added.; DatasheetVersion: Aug-1994; PackageVersion: 1997; PackageReference: NI28A; Publisher: Altium Limited; PackageDescription: DIP, 28-Pin, Row Spacing 7.62 mm, Pitch 2.54 mm; ComponentLink1Description: Manufacturer Link; ComponentLink1URL: http://www.maxim-ic.com/; ComponentLink2Description: Datasheet; ComponentLink2URL: http://pdfserv.maxim-ic.com/en/ds/MAX306-MAX307.pdf
footprint NI28A (DIP, 28-Leads, Row Spacing 7.62mm, Pitch 2.54mm, Body 34.8x6.99mm)
3D model NI28 (DIP, 28-Pin, Row Spacing 7.62 mm, Pitch 2.54 mm)
pins: 1 VDD (power), 2 COMB (io), 3 NC, 4 NO8B (io), 5 NO7B (io), 6 NO6B (io), 7 NO5B (io), 8 NO4B (io), 9 NO3B (io), 10 NO2B (io), 11 NO1B (io), 12 GND (power), 13 NC, 14 NC, 15 A2 (in), 16 A1 (in), 17 A0 (in), 18 EN (in), 19 NO1A (io), 20 NO2A (io), 21 NO3A (io), 22 NO4A (io), 23 NO5A (io), 24 NO6A (io), 25 NO7A (io), 26 NO8A (io), 27 VEE (power), 28 COMA (io)

## MAX307EQI
designator U?
Precision, Dual 8-Channel, High-Performance, CMOS Analog Multiplexer; Published: 16-Jan-2001; LatestRevisionDate: 13-Apr-2006; LatestRevisionNote: IPC-7351 Footprint Added.; DatasheetVersion: Aug-1994; PackageReference: PLCC28; Publisher: Altium Limited; PackageDescription: 28-Pin Leaded Chip Carrier 1.27 mm Pitch; Code_IPC: PLCC-28; ComponentLink1Description: Manufacturer Link; ComponentLink1URL: http://www.maxim-ic.com/; ComponentLink2Description: Datasheet; ComponentLink2URL: http://pdfserv.maxim-ic.com/en/ds/MAX306-MAX307.pdf
footprint PLCC28_N (Leaded Chip Carrier, 28-Leads, Body 11.5x11.5mm, Pitch 1.27mm, IPC Medium Density)
footprint PLCC28_L (Leaded Chip Carrier, 28-Leads, Body 11.5x11.5mm, Pitch 1.27mm, IPC High Density)
footprint PLCC28_M (Leaded Chip Carrier, 28-Leads, Body 11.5x11.5mm, Pitch 1.27mm, IPC Low Density)
3D model MAX307-PLCC28 (28-Pin Leaded Chip Carrier 1.27 mm Pitch)
pins: 1 VDD (power), 2 COMB (io), 3 NC, 4 NO8B (io), 5 NO7B (io), 6 NO6B (io), 7 NO5B (io), 8 NO4B (io), 9 NO3B (io), 10 NO2B (io), 11 NO1B (io), 12 GND (power), 13 NC, 14 NC, 15 A2 (in), 16 A1 (in), 17 A0 (in), 18 EN (in), 19 NO1A (io), 20 NO2A (io), 21 NO3A (io), 22 NO4A (io), 23 NO5A (io), 24 NO6A (io), 25 NO7A (io), 26 NO8A (io), 27 VEE (power), 28 COMA (io)

## MAX307EWI
designator U?
Precision, Dual 8-Channel, High-Performance, CMOS Analog Multiplexer; Published: 16-Jan-2001; LatestRevisionDate: 13-Apr-2006; LatestRevisionNote: IPC-7351 Footprint Added.; DatasheetVersion: Aug-1994; PackageReference: WSO28; Publisher: Altium Limited; PackageDescription: 28-Pin Small Outline Integrated Circuit 1.27 mm Pitch; ComponentLink1Description: Manufacturer Link; ComponentLink1URL: http://www.maxim-ic.com/; ComponentLink2Description: Datasheet; ComponentLink2URL: http://pdfserv.maxim-ic.com/en/ds/MAX306-MAX307.pdf
footprint WSO28_N (SOIC, 28-Leads, Body 17.9x7.5mm, Pitch 1.27mm, IPC Medium Density)
footprint WSO28_L (SOIC, 28-Leads, Body 17.9x7.5mm, Pitch 1.27mm, IPC High Density)
footprint WSO28_M (SOIC, 28-Leads, Body 17.9x7.5mm, Pitch 1.27mm, IPC Low Density)
3D model WSO28 (28-Pin Small Outline Integrated Circuit 1.27 mm Pitch)
pins: 1 VDD (power), 2 COMB (io), 3 NC, 4 NO8B (io), 5 NO7B (io), 6 NO6B (io), 7 NO5B (io), 8 NO4B (io), 9 NO3B (io), 10 NO2B (io), 11 NO1B (io), 12 GND (power), 13 NC, 14 NC, 15 A2 (in), 16 A1 (in), 17 A0 (in), 18 EN (in), 19 NO1A (io), 20 NO2A (io), 21 NO3A (io), 22 NO4A (io), 23 NO5A (io), 24 NO6A (io), 25 NO7A (io), 26 NO8A (io), 27 VEE (power), 28 COMA (io)

## MAX307MJI
designator U?
Precision, Dual 8-Channel, High-Performance, CMOS Analog Multiplexer; Published: 16-Jan-2001; LatestRevisionDate: 29-May-2009; LatestRevisionNote: Component Body Added.; DatasheetVersion: Aug-1994; PackageReference: JI28A; Publisher: Altium Limited; PackageDescription: DIP, 28-Pin, Row Spacing 15.24 mm, Pitch 2.54 mm; ComponentLink1Description: Manufacturer Link; ComponentLink1URL: http://www.maxim-ic.com/; ComponentLink2Description: Datasheet; ComponentLink2URL: http://pdfserv.maxim-ic.com/en/ds/MAX306-MAX307.pdf
footprint JI28A (DIP, 28-Leads, Row Spacing 15.24mm, Pitch 2.54mm, Body 37.15x14.1mm)
3D model JI28 (DIP, 28-Pin, Row Spacing 15.24 mm, Pitch 2.54 mm)
pins: 1 VDD (power), 2 COMB (io), 3 NC, 4 NO8B (io), 5 NO7B (io), 6 NO6B (io), 7 NO5B (io), 8 NO4B (io), 9 NO3B (io), 10 NO2B (io), 11 NO1B (io), 12 GND (power), 13 NC, 14 NC, 15 A2 (in), 16 A1 (in), 17 A0 (in), 18 EN (in), 19 NO1A (io), 20 NO2A (io), 21 NO3A (io), 22 NO4A (io), 23 NO5A (io), 24 NO6A (io), 25 NO7A (io), 26 NO8A (io), 27 VEE (power), 28 COMA (io)

## MAX308CPE
designator U?
Precision, 8-Channel, High-Performance, CMOS Analog Multiplexer; Published: 16-Jan-2001; LatestRevisionDate: 29-May-2009; LatestRevisionNote: Component Body Added.; DatasheetVersion: Jul-1994; PackageVersion: 1997; PackageReference: PE16A; Publisher: Altium Limited; PackageDescription: DIP, 16-Pin, Row Spacing 7.62 mm, Pitch 2.54 mm; Code_JEDEC: MS-001-BB; ComponentLink1Description: Manufacturer Link; ComponentLink1URL: http://www.maxim-ic.com/; ComponentLink2Description: Datasheet; ComponentLink2URL: http://pdfserv.maxim-ic.com/en/ds/MAX308-MAX309.pdf
footprint PE16A (DIP, 16-Leads, Row Spacing 7.62mm, Pitch 2.54mm, Body 19.18x6.99mm)
3D model PE16 (DIP, 16-Pin, Row Spacing 7.62 mm, Pitch 2.54 mm)
pins: 1 A0 (in), 2 EN (in), 3 VEE (power), 4 NO1 (io), 5 NO2 (io), 6 NO3 (io), 7 NO4 (io), 8 COM (io), 9 NO8 (io), 10 NO7 (io), 11 NO6 (io), 12 NO5 (io), 13 VDD (power), 14 GND (power), 15 A2 (in), 16 A1 (in)

## MAX308CSE
designator U?
Precision, 8-Channel, High-Performance, CMOS Analog Multiplexer; Published: 16-Jan-2001; LatestRevisionDate: 13-Apr-2006; LatestRevisionNote: IPC-7351 Footprint Added.; DatasheetVersion: Jul-1994; PackageReference: NSO16; Publisher: Altium Limited; PackageDescription: 16-Pin Small Outline Integrated Circuit 1.27 mm Pitch; Code_JEDEC: MS-012-AC; Code_IPC: SOIC127P600-16; ComponentLink1Description: Manufacturer Link; ComponentLink1URL: http://www.maxim-ic.com/; ComponentLink2Description: Datasheet; ComponentLink2URL: http://pdfserv.maxim-ic.com/en/ds/MAX308-MAX309.pdf
footprint NSO16_N (SOIC, 16-Leads, Body 9.9x3.9mm, Pitch 1.27mm, IPC Medium Density)
footprint NSO16_L (SOIC, 16-Leads, Body 9.9x3.9mm, Pitch 1.27mm, IPC High Density)
footprint NSO16_M (SOIC, 16-Leads, Body 9.9x3.9mm, Pitch 1.27mm, IPC Low Density)
3D model NSO16 (16-Pin Small Outline Integrated Circuit 1.27 mm Pitch)
pins: 1 A0 (in), 2 EN (in), 3 VEE (power), 4 NO1 (io), 5 NO2 (io), 6 NO3 (io), 7 NO4 (io), 8 COM (io), 9 NO8 (io), 10 NO7 (io), 11 NO6 (io), 12 NO5 (io), 13 VDD (power), 14 GND (power), 15 A2 (in), 16 A1 (in)

## MAX308EJE
designator U?
Precision, 8-Channel, High-Performance, CMOS Analog Multiplexer; Published: 16-Jan-2001; LatestRevisionDate: 29-May-2009; LatestRevisionNote: Component Body Added.; DatasheetVersion: Jul-1994; PackageVersion: 1996; PackageReference: JE16; Publisher: Altium Limited; PackageDescription: DIP, 16-Pin, Row Spacing 7.62 mm, Pitch 2.54 mm; ComponentLink1Description: Manufacturer Link; ComponentLink1URL: http://www.maxim-ic.com/; ComponentLink2Description: Datasheet; ComponentLink2URL: http://pdfserv.maxim-ic.com/en/ds/MAX308-MAX309.pdf
footprint JE16 (DIP, 16-Leads, Row Spacing 7.62mm, Pitch 2.54mm, Body 20.37x6.73mm)
3D model JE16 (DIP, 16-Pin, Row Spacing 7.62 mm, Pitch 2.54 mm)
pins: 1 A0 (in), 2 EN (in), 3 VEE (power), 4 NO1 (io), 5 NO2 (io), 6 NO3 (io), 7 NO4 (io), 8 COM (io), 9 NO8 (io), 10 NO7 (io), 11 NO6 (io), 12 NO5 (io), 13 VDD (power), 14 GND (power), 15 A2 (in), 16 A1 (in)

## MAX308EPE
designator U?
Precision, 8-Channel, High-Performance, CMOS Analog Multiplexer; Published: 16-Jan-2001; LatestRevisionDate: 29-May-2009; LatestRevisionNote: Component Body Added.; DatasheetVersion: Jul-1994; PackageVersion: 1997; PackageReference: PE16A; Publisher: Altium Limited; PackageDescription: DIP, 16-Pin, Row Spacing 7.62 mm, Pitch 2.54 mm; Code_JEDEC: MS-001-BB; ComponentLink1Description: Manufacturer Link; ComponentLink1URL: http://www.maxim-ic.com/; ComponentLink2Description: Datasheet; ComponentLink2URL: http://pdfserv.maxim-ic.com/en/ds/MAX308-MAX309.pdf
footprint PE16A (DIP, 16-Leads, Row Spacing 7.62mm, Pitch 2.54mm, Body 19.18x6.99mm)
3D model PE16 (DIP, 16-Pin, Row Spacing 7.62 mm, Pitch 2.54 mm)
pins: 1 A0 (in), 2 EN (in), 3 VEE (power), 4 NO1 (io), 5 NO2 (io), 6 NO3 (io), 7 NO4 (io), 8 COM (io), 9 NO8 (io), 10 NO7 (io), 11 NO6 (io), 12 NO5 (io), 13 VDD (power), 14 GND (power), 15 A2 (in), 16 A1 (in)

## MAX308ESE
designator U?
Precision, 8-Channel, High-Performance, CMOS Analog Multiplexer; Published: 16-Jan-2001; LatestRevisionDate: 13-Apr-2006; LatestRevisionNote: IPC-7351 Footprint Added.; DatasheetVersion: Jul-1994; PackageReference: NSO16; Publisher: Altium Limited; PackageDescription: 16-Pin Small Outline Integrated Circuit 1.27 mm Pitch; Code_JEDEC: MS-012-AC; Code_IPC: SOIC127P600-16; ComponentLink1Description: Manufacturer Link; ComponentLink1URL: http://www.maxim-ic.com/; ComponentLink2Description: Datasheet; ComponentLink2URL: http://pdfserv.maxim-ic.com/en/ds/MAX308-MAX309.pdf
footprint NSO16_N (SOIC, 16-Leads, Body 9.9x3.9mm, Pitch 1.27mm, IPC Medium Density)
footprint NSO16_L (SOIC, 16-Leads, Body 9.9x3.9mm, Pitch 1.27mm, IPC High Density)
footprint NSO16_M (SOIC, 16-Leads, Body 9.9x3.9mm, Pitch 1.27mm, IPC Low Density)
3D model NSO16 (16-Pin Small Outline Integrated Circuit 1.27 mm Pitch)
pins: 1 A0 (in), 2 EN (in), 3 VEE (power), 4 NO1 (io), 5 NO2 (io), 6 NO3 (io), 7 NO4 (io), 8 COM (io), 9 NO8 (io), 10 NO7 (io), 11 NO6 (io), 12 NO5 (io), 13 VDD (power), 14 GND (power), 15 A2 (in), 16 A1 (in)

## MAX308MJE
designator U?
Precision, 8-Channel, High-Performance, CMOS Analog Multiplexer; Published: 16-Jan-2001; LatestRevisionDate: 29-May-2009; LatestRevisionNote: Component Body Added.; DatasheetVersion: Jul-1994; PackageVersion: 1996; PackageReference: JE16; Publisher: Altium Limited; PackageDescription: DIP, 16-Pin, Row Spacing 7.62 mm, Pitch 2.54 mm; ComponentLink1Description: Manufacturer Link; ComponentLink1URL: http://www.maxim-ic.com/; ComponentLink2Description: Datasheet; ComponentLink2URL: http://pdfserv.maxim-ic.com/en/ds/MAX308-MAX309.pdf
footprint JE16 (DIP, 16-Leads, Row Spacing 7.62mm, Pitch 2.54mm, Body 20.37x6.73mm)
3D model JE16 (DIP, 16-Pin, Row Spacing 7.62 mm, Pitch 2.54 mm)
pins: 1 A0 (in), 2 EN (in), 3 VEE (power), 4 NO1 (io), 5 NO2 (io), 6 NO3 (io), 7 NO4 (io), 8 COM (io), 9 NO8 (io), 10 NO7 (io), 11 NO6 (io), 12 NO5 (io), 13 VDD (power), 14 GND (power), 15 A2 (in), 16 A1 (in)

## MAX309CPE
designator U?
Precision, Dual 4-Channel, High-Performance, CMOS Analog Multiplexer; Published: 16-Jan-2001; LatestRevisionDate: 29-May-2009; LatestRevisionNote: Component Body Added.; DatasheetVersion: Jul-1994; PackageVersion: 1997; PackageReference: PE16A; Publisher: Altium Limited; PackageDescription: DIP, 16-Pin, Row Spacing 7.62 mm, Pitch 2.54 mm; Code_JEDEC: MS-001-BB; ComponentLink1Description: Manufacturer Link; ComponentLink1URL: http://www.maxim-ic.com/; ComponentLink2Description: Datasheet; ComponentLink2URL: http://pdfserv.maxim-ic.com/en/ds/MAX308-MAX309.pdf
footprint PE16A (DIP, 16-Leads, Row Spacing 7.62mm, Pitch 2.54mm, Body 19.18x6.99mm)
3D model PE16 (DIP, 16-Pin, Row Spacing 7.62 mm, Pitch 2.54 mm)
pins: 1 A0 (in), 2 EN (in), 3 VEE (power), 4 NO1A (io), 5 NO2A (io), 6 NO3A (io), 7 NO4A (io), 8 COMA (io), 9 COMB (io), 10 NO4B (io), 11 NO3B (io), 12 NO2B (io), 13 NO1B (io), 14 VDD (power), 15 GND (power), 16 A1 (in)

## MAX309CSE
designator U?
Precision, Dual 4-Channel, High-Performance, CMOS Analog Multiplexer; Published: 16-Jan-2001; LatestRevisionDate: 13-Apr-2006; LatestRevisionNote: IPC-7351 Footprint Added.; DatasheetVersion: Jul-1994; PackageReference: NSO16; Publisher: Altium Limited; PackageDescription: 16-Pin Small Outline Integrated Circuit 1.27 mm Pitch; Code_JEDEC: MS-012-AC; Code_IPC: SOIC127P600-16; ComponentLink1Description: Manufacturer Link; ComponentLink1URL: http://www.maxim-ic.com/; ComponentLink2Description: Datasheet; ComponentLink2URL: http://pdfserv.maxim-ic.com/en/ds/MAX308-MAX309.pdf
footprint NSO16_N (SOIC, 16-Leads, Body 9.9x3.9mm, Pitch 1.27mm, IPC Medium Density)
footprint NSO16_L (SOIC, 16-Leads, Body 9.9x3.9mm, Pitch 1.27mm, IPC High Density)
footprint NSO16_M (SOIC, 16-Leads, Body 9.9x3.9mm, Pitch 1.27mm, IPC Low Density)
3D model NSO16 (16-Pin Small Outline Integrated Circuit 1.27 mm Pitch)
pins: 1 A0 (in), 2 EN (in), 3 VEE (power), 4 NO1A (io), 5 NO2A (io), 6 NO3A (io), 7 NO4A (io), 8 COMA (io), 9 COMB (io), 10 NO4B (io), 11 NO3B (io), 12 NO2B (io), 13 NO1B (io), 14 VDD (power), 15 GND (power), 16 A1 (in)

## MAX309EJE
designator U?
Precision, Dual 4-Channel, High-Performance, CMOS Analog Multiplexer; Published: 16-Jan-2001; LatestRevisionDate: 29-May-2009; LatestRevisionNote: Component Body Added.; DatasheetVersion: Jul-1994; PackageVersion: 1996; PackageReference: JE16; Publisher: Altium Limited; PackageDescription: DIP, 16-Pin, Row Spacing 7.62 mm, Pitch 2.54 mm; ComponentLink1Description: Manufacturer Link; ComponentLink1URL: http://www.maxim-ic.com/; ComponentLink2Description: Datasheet; ComponentLink2URL: http://pdfserv.maxim-ic.com/en/ds/MAX308-MAX309.pdf
footprint JE16 (DIP, 16-Leads, Row Spacing 7.62mm, Pitch 2.54mm, Body 20.37x6.73mm)
3D model JE16 (DIP, 16-Pin, Row Spacing 7.62 mm, Pitch 2.54 mm)
pins: 1 A0 (in), 2 EN (in), 3 VEE (power), 4 NO1A (io), 5 NO2A (io), 6 NO3A (io), 7 NO4A (io), 8 COMA (io), 9 COMB (io), 10 NO4B (io), 11 NO3B (io), 12 NO2B (io), 13 NO1B (io), 14 VDD (power), 15 GND (power), 16 A1 (in)

## MAX309EPE
designator U?
Precision, Dual 4-Channel, High-Performance, CMOS Analog Multiplexer; Published: 16-Jan-2001; LatestRevisionDate: 29-May-2009; LatestRevisionNote: Component Body Added.; DatasheetVersion: Jul-1994; PackageVersion: 1997; PackageReference: PE16A; Publisher: Altium Limited; PackageDescription: DIP, 16-Pin, Row Spacing 7.62 mm, Pitch 2.54 mm; Code_JEDEC: MS-001-BB; ComponentLink1Description: Manufacturer Link; ComponentLink1URL: http://www.maxim-ic.com/; ComponentLink2Description: Datasheet; ComponentLink2URL: http://pdfserv.maxim-ic.com/en/ds/MAX308-MAX309.pdf
footprint PE16A (DIP, 16-Leads, Row Spacing 7.62mm, Pitch 2.54mm, Body 19.18x6.99mm)
3D model PE16 (DIP, 16-Pin, Row Spacing 7.62 mm, Pitch 2.54 mm)
pins: 1 A0 (in), 2 EN (in), 3 VEE (power), 4 NO1A (io), 5 NO2A (io), 6 NO3A (io), 7 NO4A (io), 8 COMA (io), 9 COMB (io), 10 NO4B (io), 11 NO3B (io), 12 NO2B (io), 13 NO1B (io), 14 VDD (power), 15 GND (power), 16 A1 (in)